# Altium schematic symbol library pporyzala-TI_Lighting.SchLib: 745 symbols (part 40 of 48)
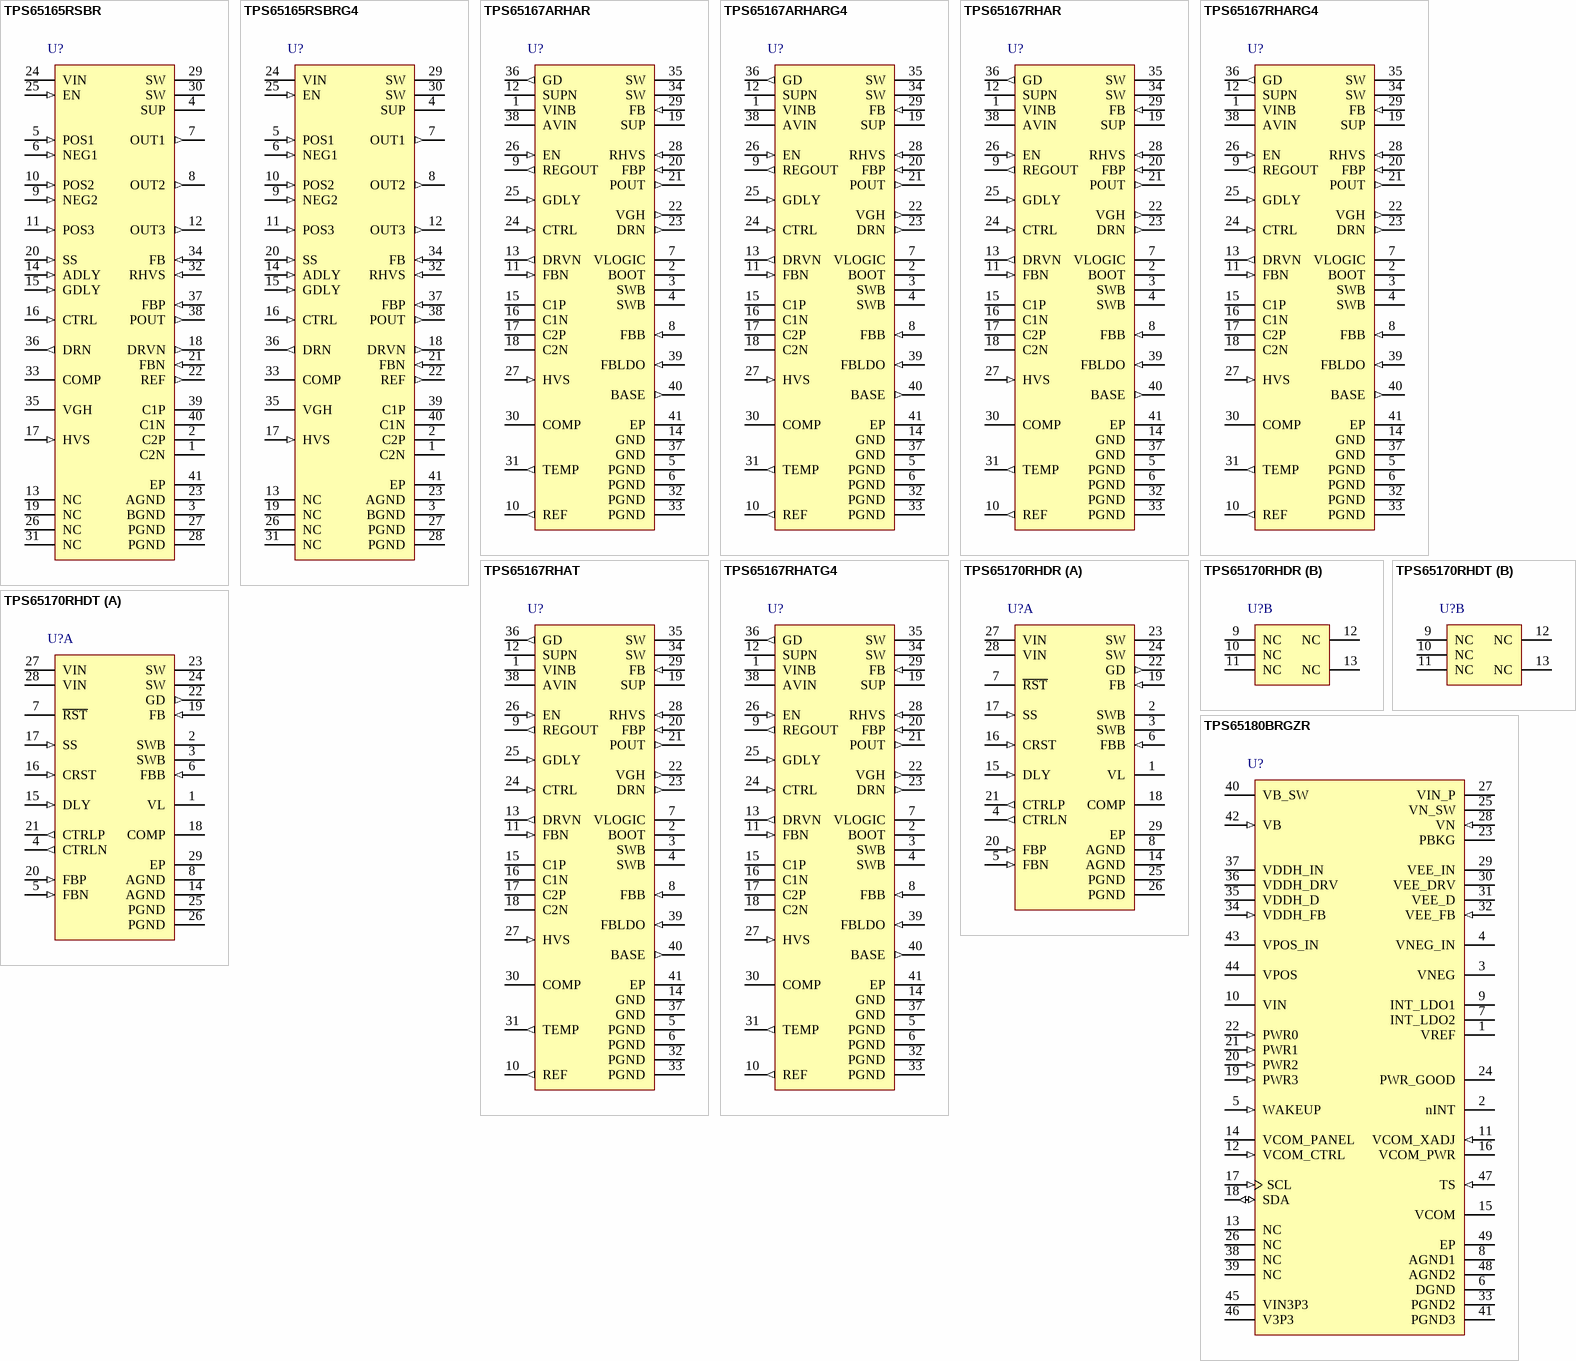
[diagram p70: symbols TPS65165RSBR to TPS65180BRGZR]

## TPS65167ARHAR
designator U?
4-Channel LCD Bias with Fully Integrated Positive Charge Pump, LDO Controller, HVS (VDD / VGH) & Temp. Sensor, 6 to 14 V, -40 to 85 degC, 40-pin QFN (RHA40), Green (RoHS & no Sb/Br); Manufacturer: Texas Instruments; PartNumber: TPS65167ARHAR; Rating: Catalog; SubFamily: LCD/OLED Display Bias Solutions; Switching Frequency(Typ)(kHz): 750; Vin(Max)(V): 14; Vin(Min)(V): 6; DatasheetVersion: SLVS760C; PackageVersion: 4204276/E; PackageReference: RHA40-4150X4150TP; PackageDescription: 40-Pin Plastic Flat Pack, Body 6 x 6 mm, Pitch 0.5 mm; Supplier 1: Digi-Key; Supplier Part Number 1: 296-22946-2-ND; Supplier 2: Digi-Key; Supplier Part Number 2: 296-22946-1-ND; Supplier 3: Digi-Key; Supplier Part Number 3: 296-22946-6-ND; Supplier 4: Newark; Supplier Part Number 4: 65M6349; Supplier 5: Mouser; Supplier Part Number 5: 595-TPS65167ARHAR; Eco-Plan: Green (RoHS & no Sb/Br); Mounting Technology: Surface Mount; Code_JEDEC: MO-220; ComponentLink1Description: Manufacturer URL; ComponentLink1URL: http://www.ti.com/; ComponentLink2Description: Datasheet; ComponentLink2URL: http://www.ti.com/general/docs/lit/getliterature.tsp?genericPartNumber=TPS65167A&fileType=pdf; ComponentLink3Description: Package Specification; ComponentLink3URL: http://www.ti.com/litv/pdf/mpqf135c
footprint TI-RHA40-4150X4150TP_V (QFN, 40-Leads, Body 6x6mm, Pitch 0.5mm, Thermal Pad 4.15x4.15mm)
pins: 1 VINB (power) "Power input for the buck converter.", 2 BOOT (power) "This pin generates the gate drive voltage for the Buck converter. Connect a 100 nF from this pin to the switch pin of the step-down converter SWB.", 3 SWB (power) "Switch pin of the step-down converter", 4 SWB (power) "Switch pin of the step-down converter", 5 PGND (power) "Power ground for the step-down converter", 6 PGND (power) "Power ground for the negative charge pump", 7 VLOGIC (power) "Output sense of the step-down converter", 8 FBB (in) "Feedback pin of the step-down converter", 9 REGOUT (out) "Output of the internal 5V regulator. Connect a 4.7 uF bypass capacitor to this pin.", 10 REF (out) "Internal reference output typically 1.213 V. Connect a 100 nF bypass capacitor to this pin.", 11 FBN (in) "Feedback pin of negative charge pump", 12 SUPN (power) "Power supply pin for the negative charge pump driver.", 13 DRVN (out) "Drive pin of the negative charge pump.", 14 GND (power) "Power ground for the positive charge pump", 15 C1P "Positive charge pump flying capacitor", 16 C1N "Positive charge pump flying capacitor", 17 C2P "Positive charge pump flying capacitor", 18 C2N "Positive charge pump flying capacitor", 19 SUP (power) "Power supply pin of the positive charge pump and control voltage for the boost regulator Vs. Connect this pin with a short and wide PCB trace to the output of the boots converter", 20 FBP (in) "Feedback of the positive charge pump", 21 POUT (out) "Output of the positive charge pump converter", 22 VGH (out) "Output of the high voltage switch and gate shaping function block", 23 DRN (out) "Termination of the low side switch of the gate voltage shaping block", 24 CTRL (in) "Control input for the gate voltage shaping block. Connect this pin to REGOUT if the gate voltage shaping function is not used.", 25 GDLY (in) "Connecting a capacitor from this pin to GND allows to set the delay time between the boost converter Vs and VGH. Note that VGH is controlled by CTRL as well.", 26 EN (in) "This is the enable pin of the boost converter Vs, negative charge pump VGL and positive charge pump POUT. This pin is a dual function pin. EN can be held high if no start-up delay is desired or a capacitor can be connected (See Datasheet)", 27 HVS (in) "Logic control input to force the device into High Voltage Stress Test. With HVS = low the high voltage stress test disabled. With the TPS65167 and HVS = high the high voltage stress test is enabled for Vs and for VGH. With (See Datasheet)", 28 RHVS (in) "This resistor sets the voltage of the boost converter Vs when the High Voltage Stress test is enabled. (HVS= high). With HVS = high the RHVS pin is pulled to GND which sets the voltage for the boost converter during High (See Datasheet)", 29 FB (in) "Feedback of the boost converter Vs", 30 COMP "Compensation for the regulation loop of the boost converter generating Vs. Typically a 22 nF compensation capacitor is connected to this pin.", 31 TEMP (out) "This is the output of the internal device temperature sensor. The output voltage is proportional to the chip temperature.", 32 PGND (power) "Power Ground for the boost converter Vs", 33 PGND (power) "Power Ground for the boost converter Vs", 34 SW (power) "Switch pin of the boost converter generating Vs", 35 SW (power) "Switch pin of the boost converter generating Vs", 36 GD (out) "Gate drive. This pin controls the external isolation MOSFET.", 37 GND (power) "Analog Ground for the internal reference", 38 AVIN (power) "Analog input voltage of the device. Bypass this pin with a 0.47 uF bypass capacitor.", 39 FBLDO (in) "Feedback of the LDO controller", 40 BASE (out) "BASE drive of the external PNP transistor", 41 EP (power) "Analog GND for the internal reference"

## TPS65167ARHARG4
designator U?
4-Channel LCD Bias with Fully Integrated Positive Charge Pump, LDO Controller, HVS (VDD / VGH) & Temp. Sensor, 6 to 14 V, -40 to 85 degC, 40-pin QFN (RHA40), Green (RoHS & no Sb/Br); Manufacturer: Texas Instruments; PartNumber: TPS65167ARHARG4; Rating: Catalog; SubFamily: LCD/OLED Display Bias Solutions; Switching Frequency(Typ)(kHz): 750; Vin(Max)(V): 14; Vin(Min)(V): 6; DatasheetVersion: SLVS760C; PackageVersion: 4204276/E; PackageReference: RHA40-4150X4150TP; PackageDescription: 40-Pin Plastic Flat Pack, Body 6 x 6 mm, Pitch 0.5 mm; Supplier 1: Digi-Key; Supplier Part Number 1: TPS65167ARHARG4-ND; Supplier 2: Newark; Supplier Part Number 2: 65M6350; Supplier 3: Mouser; Supplier Part Number 3: 595-TPS65167ARHARG4; Eco-Plan: Green (RoHS & no Sb/Br); Mounting Technology: Surface Mount; Code_JEDEC: MO-220; ComponentLink1Description: Manufacturer URL; ComponentLink1URL: http://www.ti.com/; ComponentLink2Description: Datasheet; ComponentLink2URL: http://www.ti.com/general/docs/lit/getliterature.tsp?genericPartNumber=TPS65167A&fileType=pdf; ComponentLink3Description: Package Specification; ComponentLink3URL: http://www.ti.com/litv/pdf/mpqf135c
footprint TI-RHA40-4150X4150TP_V (QFN, 40-Leads, Body 6x6mm, Pitch 0.5mm, Thermal Pad 4.15x4.15mm)
pins: 1 VINB (power) "Power input for the buck converter.", 2 BOOT (power) "This pin generates the gate drive voltage for the Buck converter. Connect a 100 nF from this pin to the switch pin of the step-down converter SWB.", 3 SWB (power) "Switch pin of the step-down converter", 4 SWB (power) "Switch pin of the step-down converter", 5 PGND (power) "Power ground for the step-down converter", 6 PGND (power) "Power ground for the negative charge pump", 7 VLOGIC (power) "Output sense of the step-down converter", 8 FBB (in) "Feedback pin of the step-down converter", 9 REGOUT (out) "Output of the internal 5V regulator. Connect a 4.7 uF bypass capacitor to this pin.", 10 REF (out) "Internal reference output typically 1.213 V. Connect a 100 nF bypass capacitor to this pin.", 11 FBN (in) "Feedback pin of negative charge pump", 12 SUPN (power) "Power supply pin for the negative charge pump driver.", 13 DRVN (out) "Drive pin of the negative charge pump.", 14 GND (power) "Power ground for the positive charge pump", 15 C1P "Positive charge pump flying capacitor", 16 C1N "Positive charge pump flying capacitor", 17 C2P "Positive charge pump flying capacitor", 18 C2N "Positive charge pump flying capacitor", 19 SUP (power) "Power supply pin of the positive charge pump and control voltage for the boost regulator Vs. Connect this pin with a short and wide PCB trace to the output of the boots converter", 20 FBP (in) "Feedback of the positive charge pump", 21 POUT (out) "Output of the positive charge pump converter", 22 VGH (out) "Output of the high voltage switch and gate shaping function block", 23 DRN (out) "Termination of the low side switch of the gate voltage shaping block", 24 CTRL (in) "Control input for the gate voltage shaping block. Connect this pin to REGOUT if the gate voltage shaping function is not used.", 25 GDLY (in) "Connecting a capacitor from this pin to GND allows to set the delay time between the boost converter Vs and VGH. Note that VGH is controlled by CTRL as well.", 26 EN (in) "This is the enable pin of the boost converter Vs, negative charge pump VGL and positive charge pump POUT. This pin is a dual function pin. EN can be held high if no start-up delay is desired or a capacitor can be connected (See Datasheet)", 27 HVS (in) "Logic control input to force the device into High Voltage Stress Test. With HVS = low the high voltage stress test disabled. With the TPS65167 and HVS = high the high voltage stress test is enabled for Vs and for VGH. With (See Datasheet)", 28 RHVS (in) "This resistor sets the voltage of the boost converter Vs when the High Voltage Stress test is enabled. (HVS= high). With HVS = high the RHVS pin is pulled to GND which sets the voltage for the boost converter during High (See Datasheet)", 29 FB (in) "Feedback of the boost converter Vs", 30 COMP "Compensation for the regulation loop of the boost converter generating Vs. Typically a 22 nF compensation capacitor is connected to this pin.", 31 TEMP (out) "This is the output of the internal device temperature sensor. The output voltage is proportional to the chip temperature.", 32 PGND (power) "Power Ground for the boost converter Vs", 33 PGND (power) "Power Ground for the boost converter Vs", 34 SW (power) "Switch pin of the boost converter generating Vs", 35 SW (power) "Switch pin of the boost converter generating Vs", 36 GD (out) "Gate drive. This pin controls the external isolation MOSFET.", 37 GND (power) "Analog Ground for the internal reference", 38 AVIN (power) "Analog input voltage of the device. Bypass this pin with a 0.47 uF bypass capacitor.", 39 FBLDO (in) "Feedback of the LDO controller", 40 BASE (out) "BASE drive of the external PNP transistor", 41 EP (power) "Analog GND for the internal reference"

## TPS65167RHAR
designator U?
4-Channel LCD Bias with Fully Integrated Positive Charge Pump, LDO Controller, HVS (VDD) & Temperature Sensor, 6 to 14 V, -40 to 85 degC, 40-pin QFN (RHA40), Green (RoHS & no Sb/Br); Manufacturer: Texas Instruments; PartNumber: TPS65167RHAR; Rating: Catalog; SubFamily: LCD/OLED Display Bias Solutions; Switching Frequency(Typ)(kHz): 750; Vin(Max)(V): 14; Vin(Min)(V): 6; DatasheetVersion: SLVS760C; PackageVersion: 4204276/E; PackageReference: RHA40-4150X4150TP; PackageDescription: 40-Pin Plastic Flat Pack, Body 6 x 6 mm, Pitch 0.5 mm; Supplier 1: Digi-Key; Supplier Part Number 1: 296-21975-2-ND; Supplier 2: Digi-Key; Supplier Part Number 2: 296-21975-1-ND; Supplier 3: Digi-Key; Supplier Part Number 3: 296-21975-6-ND; Supplier 4: Newark; Supplier Part Number 4: 48M0956; Supplier 5: Mouser; Supplier Part Number 5: 595-TPS65167RHAR; Eco-Plan: Green (RoHS & no Sb/Br); Mounting Technology: Surface Mount; Code_JEDEC: MO-220; ComponentLink1Description: Manufacturer URL; ComponentLink1URL: http://www.ti.com/; ComponentLink2Description: Datasheet; ComponentLink2URL: http://www.ti.com/general/docs/lit/getliterature.tsp?genericPartNumber=TPS65167&fileType=pdf; ComponentLink3Description: Package Specification; ComponentLink3URL: http://www.ti.com/litv/pdf/mpqf135c
footprint TI-RHA40-4150X4150TP_V (QFN, 40-Leads, Body 6x6mm, Pitch 0.5mm, Thermal Pad 4.15x4.15mm)
pins: 1 VINB (power) "Power input for the buck converter.", 2 BOOT (power) "This pin generates the gate drive voltage for the Buck converter. Connect a 100 nF from this pin to the switch pin of the step-down converter SWB.", 3 SWB (power) "Switch pin of the step-down converter", 4 SWB (power) "Switch pin of the step-down converter", 5 PGND (power) "Power ground for the step-down converter", 6 PGND (power) "Power ground for the negative charge pump", 7 VLOGIC (power) "Output sense of the step-down converter", 8 FBB (in) "Feedback pin of the step-down converter", 9 REGOUT (out) "Output of the internal 5V regulator. Connect a 4.7 uF bypass capacitor to this pin.", 10 REF (out) "Internal reference output typically 1.213 V. Connect a 100 nF bypass capacitor to this pin.", 11 FBN (in) "Feedback pin of negative charge pump", 12 SUPN (power) "Power supply pin for the negative charge pump driver.", 13 DRVN (out) "Drive pin of the negative charge pump.", 14 GND (power) "Power ground for the positive charge pump", 15 C1P "Positive charge pump flying capacitor", 16 C1N "Positive charge pump flying capacitor", 17 C2P "Positive charge pump flying capacitor", 18 C2N "Positive charge pump flying capacitor", 19 SUP (power) "Power supply pin of the positive charge pump and control voltage for the boost regulator Vs. Connect this pin with a short and wide PCB trace to the output of the boots converter", 20 FBP (in) "Feedback of the positive charge pump", 21 POUT (out) "Output of the positive charge pump converter", 22 VGH (out) "Output of the high voltage switch and gate shaping function block", 23 DRN (out) "Termination of the low side switch of the gate voltage shaping block", 24 CTRL (in) "Control input for the gate voltage shaping block. Connect this pin to REGOUT if the gate voltage shaping function is not used.", 25 GDLY (in) "Connecting a capacitor from this pin to GND allows to set the delay time between the boost converter Vs and VGH. Note that VGH is controlled by CTRL as well.", 26 EN (in) "This is the enable pin of the boost converter Vs, negative charge pump VGL and positive charge pump POUT. This pin is a dual function pin. EN can be held high if no start-up delay is desired or a capacitor can be connected (See Datasheet)", 27 HVS (in) "Logic control input to force the device into High Voltage Stress Test. With HVS = low the high voltage stress test disabled. With the TPS65167 and HVS = high the high voltage stress test is enabled for Vs and for VGH. With (See Datasheet)", 28 RHVS (in) "This resistor sets the voltage of the boost converter Vs when the High Voltage Stress test is enabled. (HVS= high). With HVS = high the RHVS pin is pulled to GND which sets the voltage for the boost converter during High (See Datasheet)", 29 FB (in) "Feedback of the boost converter Vs", 30 COMP "Compensation for the regulation loop of the boost converter generating Vs. Typically a 22 nF compensation capacitor is connected to this pin.", 31 TEMP (out) "This is the output of the internal device temperature sensor. The output voltage is proportional to the chip temperature.", 32 PGND (power) "Power Ground for the boost converter Vs", 33 PGND (power) "Power Ground for the boost converter Vs", 34 SW (power) "Switch pin of the boost converter generating Vs", 35 SW (power) "Switch pin of the boost converter generating Vs", 36 GD (out) "Gate drive. This pin controls the external isolation MOSFET.", 37 GND (power) "Analog Ground for the internal reference", 38 AVIN (power) "Analog input voltage of the device. Bypass this pin with a 0.47 uF bypass capacitor.", 39 FBLDO (in) "Feedback of the LDO controller", 40 BASE (out) "BASE drive of the external PNP transistor", 41 EP (power) "Analog GND for the internal reference"

## TPS65167RHARG4
designator U?
4-Channel LCD Bias with Fully Integrated Positive Charge Pump, LDO Controller, HVS (VDD) & Temperature Sensor, 6 to 14 V, -40 to 85 degC, 40-pin QFN (RHA40), Green (RoHS & no Sb/Br); Manufacturer: Texas Instruments; PartNumber: TPS65167RHARG4; Rating: Catalog; SubFamily: LCD/OLED Display Bias Solutions; Switching Frequency(Typ)(kHz): 750; Vin(Max)(V): 14; Vin(Min)(V): 6; DatasheetVersion: SLVS760C; PackageVersion: 4204276/E; PackageReference: RHA40-4150X4150TP; PackageDescription: 40-Pin Plastic Flat Pack, Body 6 x 6 mm, Pitch 0.5 mm; Supplier 1: Digi-Key; Supplier Part Number 1: TPS65167RHARG4-ND; Supplier 2: Newark; Supplier Part Number 2: 52M6150; Supplier 3: Mouser; Supplier Part Number 3: 595-TPS65167RHARG4; Eco-Plan: Green (RoHS & no Sb/Br); Mounting Technology: Surface Mount; Code_JEDEC: MO-220; ComponentLink1Description: Manufacturer URL; ComponentLink1URL: http://www.ti.com/; ComponentLink2Description: Datasheet; ComponentLink2URL: http://www.ti.com/general/docs/lit/getliterature.tsp?genericPartNumber=TPS65167&fileType=pdf; ComponentLink3Description: Package Specification; ComponentLink3URL: http://www.ti.com/litv/pdf/mpqf135c
footprint TI-RHA40-4150X4150TP_V (QFN, 40-Leads, Body 6x6mm, Pitch 0.5mm, Thermal Pad 4.15x4.15mm)
pins: 1 VINB (power) "Power input for the buck converter.", 2 BOOT (power) "This pin generates the gate drive voltage for the Buck converter. Connect a 100 nF from this pin to the switch pin of the step-down converter SWB.", 3 SWB (power) "Switch pin of the step-down converter", 4 SWB (power) "Switch pin of the step-down converter", 5 PGND (power) "Power ground for the step-down converter", 6 PGND (power) "Power ground for the negative charge pump", 7 VLOGIC (power) "Output sense of the step-down converter", 8 FBB (in) "Feedback pin of the step-down converter", 9 REGOUT (out) "Output of the internal 5V regulator. Connect a 4.7 uF bypass capacitor to this pin.", 10 REF (out) "Internal reference output typically 1.213 V. Connect a 100 nF bypass capacitor to this pin.", 11 FBN (in) "Feedback pin of negative charge pump", 12 SUPN (power) "Power supply pin for the negative charge pump driver.", 13 DRVN (out) "Drive pin of the negative charge pump.", 14 GND (power) "Power ground for the positive charge pump", 15 C1P "Positive charge pump flying capacitor", 16 C1N "Positive charge pump flying capacitor", 17 C2P "Positive charge pump flying capacitor", 18 C2N "Positive charge pump flying capacitor", 19 SUP (power) "Power supply pin of the positive charge pump and control voltage for the boost regulator Vs. Connect this pin with a short and wide PCB trace to the output of the boots converter", 20 FBP (in) "Feedback of the positive charge pump", 21 POUT (out) "Output of the positive charge pump converter", 22 VGH (out) "Output of the high voltage switch and gate shaping function block", 23 DRN (out) "Termination of the low side switch of the gate voltage shaping block", 24 CTRL (in) "Control input for the gate voltage shaping block. Connect this pin to REGOUT if the gate voltage shaping function is not used.", 25 GDLY (in) "Connecting a capacitor from this pin to GND allows to set the delay time between the boost converter Vs and VGH. Note that VGH is controlled by CTRL as well.", 26 EN (in) "This is the enable pin of the boost converter Vs, negative charge pump VGL and positive charge pump POUT. This pin is a dual function pin. EN can be held high if no start-up delay is desired or a capacitor can be connected (See Datasheet)", 27 HVS (in) "Logic control input to force the device into High Voltage Stress Test. With HVS = low the high voltage stress test disabled. With the TPS65167 and HVS = high the high voltage stress test is enabled for Vs and for VGH. With (See Datasheet)", 28 RHVS (in) "This resistor sets the voltage of the boost converter Vs when the High Voltage Stress test is enabled. (HVS= high). With HVS = high the RHVS pin is pulled to GND which sets the voltage for the boost converter during High (See Datasheet)", 29 FB (in) "Feedback of the boost converter Vs", 30 COMP "Compensation for the regulation loop of the boost converter generating Vs. Typically a 22 nF compensation capacitor is connected to this pin.", 31 TEMP (out) "This is the output of the internal device temperature sensor. The output voltage is proportional to the chip temperature.", 32 PGND (power) "Power Ground for the boost converter Vs", 33 PGND (power) "Power Ground for the boost converter Vs", 34 SW (power) "Switch pin of the boost converter generating Vs", 35 SW (power) "Switch pin of the boost converter generating Vs", 36 GD (out) "Gate drive. This pin controls the external isolation MOSFET.", 37 GND (power) "Analog Ground for the internal reference", 38 AVIN (power) "Analog input voltage of the device. Bypass this pin with a 0.47 uF bypass capacitor.", 39 FBLDO (in) "Feedback of the LDO controller", 40 BASE (out) "BASE drive of the external PNP transistor", 41 EP (power) "Analog GND for the internal reference"

## TPS65167RHAT
designator U?
4-Channel LCD Bias with Fully Integrated Positive Charge Pump, LDO Controller, HVS (VDD) & Temperature Sensor, 6 to 14 V, -40 to 85 degC, 40-pin QFN (RHA40), Green (RoHS & no Sb/Br); Manufacturer: Texas Instruments; PartNumber: TPS65167RHAT; Rating: Catalog; SubFamily: LCD/OLED Display Bias Solutions; Switching Frequency(Typ)(kHz): 750; Vin(Max)(V): 14; Vin(Min)(V): 6; DatasheetVersion: SLVS760C; PackageVersion: 4204276/E; PackageReference: RHA40-4150X4150TP; PackageDescription: 40-Pin Plastic Flat Pack, Body 6 x 6 mm, Pitch 0.5 mm; Supplier 1: Digi-Key; Supplier Part Number 1: TPS65167RHAT-ND; Supplier 2: Newark; Supplier Part Number 2: 48M0957; Supplier 3: Mouser; Supplier Part Number 3: 595-TPS65167RHAT; Eco-Plan: Green (RoHS & no Sb/Br); Mounting Technology: Surface Mount; Code_JEDEC: MO-220; ComponentLink1Description: Manufacturer URL; ComponentLink1URL: http://www.ti.com/; ComponentLink2Description: Datasheet; ComponentLink2URL: http://www.ti.com/general/docs/lit/getliterature.tsp?genericPartNumber=TPS65167&fileType=pdf; ComponentLink3Description: Package Specification; ComponentLink3URL: http://www.ti.com/litv/pdf/mpqf135c
footprint TI-RHA40-4150X4150TP_V (QFN, 40-Leads, Body 6x6mm, Pitch 0.5mm, Thermal Pad 4.15x4.15mm)
pins: 1 VINB (power) "Power input for the buck converter.", 2 BOOT (power) "This pin generates the gate drive voltage for the Buck converter. Connect a 100 nF from this pin to the switch pin of the step-down converter SWB.", 3 SWB (power) "Switch pin of the step-down converter", 4 SWB (power) "Switch pin of the step-down converter", 5 PGND (power) "Power ground for the step-down converter", 6 PGND (power) "Power ground for the negative charge pump", 7 VLOGIC (power) "Output sense of the step-down converter", 8 FBB (in) "Feedback pin of the step-down converter", 9 REGOUT (out) "Output of the internal 5V regulator. Connect a 4.7 uF bypass capacitor to this pin.", 10 REF (out) "Internal reference output typically 1.213 V. Connect a 100 nF bypass capacitor to this pin.", 11 FBN (in) "Feedback pin of negative charge pump", 12 SUPN (power) "Power supply pin for the negative charge pump driver.", 13 DRVN (out) "Drive pin of the negative charge pump.", 14 GND (power) "Power ground for the positive charge pump", 15 C1P "Positive charge pump flying capacitor", 16 C1N "Positive charge pump flying capacitor", 17 C2P "Positive charge pump flying capacitor", 18 C2N "Positive charge pump flying capacitor", 19 SUP (power) "Power supply pin of the positive charge pump and control voltage for the boost regulator Vs. Connect this pin with a short and wide PCB trace to the output of the boots converter", 20 FBP (in) "Feedback of the positive charge pump", 21 POUT (out) "Output of the positive charge pump converter", 22 VGH (out) "Output of the high voltage switch and gate shaping function block", 23 DRN (out) "Termination of the low side switch of the gate voltage shaping block", 24 CTRL (in) "Control input for the gate voltage shaping block. Connect this pin to REGOUT if the gate voltage shaping function is not used.", 25 GDLY (in) "Connecting a capacitor from this pin to GND allows to set the delay time between the boost converter Vs and VGH. Note that VGH is controlled by CTRL as well.", 26 EN (in) "This is the enable pin of the boost converter Vs, negative charge pump VGL and positive charge pump POUT. This pin is a dual function pin. EN can be held high if no start-up delay is desired or a capacitor can be connected (See Datasheet)", 27 HVS (in) "Logic control input to force the device into High Voltage Stress Test. With HVS = low the high voltage stress test disabled. With the TPS65167 and HVS = high the high voltage stress test is enabled for Vs and for VGH. With (See Datasheet)", 28 RHVS (in) "This resistor sets the voltage of the boost converter Vs when the High Voltage Stress test is enabled. (HVS= high). With HVS = high the RHVS pin is pulled to GND which sets the voltage for the boost converter during High (See Datasheet)", 29 FB (in) "Feedback of the boost converter Vs", 30 COMP "Compensation for the regulation loop of the boost converter generating Vs. Typically a 22 nF compensation capacitor is connected to this pin.", 31 TEMP (out) "This is the output of the internal device temperature sensor. The output voltage is proportional to the chip temperature.", 32 PGND (power) "Power Ground for the boost converter Vs", 33 PGND (power) "Power Ground for the boost converter Vs", 34 SW (power) "Switch pin of the boost converter generating Vs", 35 SW (power) "Switch pin of the boost converter generating Vs", 36 GD (out) "Gate drive. This pin controls the external isolation MOSFET.", 37 GND (power) "Analog Ground for the internal reference", 38 AVIN (power) "Analog input voltage of the device. Bypass this pin with a 0.47 uF bypass capacitor.", 39 FBLDO (in) "Feedback of the LDO controller", 40 BASE (out) "BASE drive of the external PNP transistor", 41 EP (power) "Analog GND for the internal reference"

## TPS65167RHATG4
designator U?
4-Channel LCD Bias with Fully Integrated Positive Charge Pump, LDO Controller, HVS (VDD) & Temperature Sensor, 6 to 14 V, -40 to 85 degC, 40-pin QFN (RHA40), Green (RoHS & no Sb/Br); Manufacturer: Texas Instruments; PartNumber: TPS65167RHATG4; Rating: Catalog; SubFamily: LCD/OLED Display Bias Solutions; Switching Frequency(Typ)(kHz): 750; Vin(Max)(V): 14; Vin(Min)(V): 6; DatasheetVersion: SLVS760C; PackageVersion: 4204276/E; PackageReference: RHA40-4150X4150TP; PackageDescription: 40-Pin Plastic Flat Pack, Body 6 x 6 mm, Pitch 0.5 mm; Supplier 1: Digi-Key; Supplier Part Number 1: TPS65167RHATG4-ND; Supplier 2: Newark; Supplier Part Number 2: 52M6151; Supplier 3: Mouser; Supplier Part Number 3: 595-TPS65167RHATG4; Eco-Plan: Green (RoHS & no Sb/Br); Mounting Technology: Surface Mount; Code_JEDEC: MO-220; ComponentLink1Description: Manufacturer URL; ComponentLink1URL: http://www.ti.com/; ComponentLink2Description: Datasheet; ComponentLink2URL: http://www.ti.com/general/docs/lit/getliterature.tsp?genericPartNumber=TPS65167&fileType=pdf; ComponentLink3Description: Package Specification; ComponentLink3URL: http://www.ti.com/litv/pdf/mpqf135c
footprint TI-RHA40-4150X4150TP_V (QFN, 40-Leads, Body 6x6mm, Pitch 0.5mm, Thermal Pad 4.15x4.15mm)
pins: 1 VINB (power) "Power input for the buck converter.", 2 BOOT (power) "This pin generates the gate drive voltage for the Buck converter. Connect a 100 nF from this pin to the switch pin of the step-down converter SWB.", 3 SWB (power) "Switch pin of the step-down converter", 4 SWB (power) "Switch pin of the step-down converter", 5 PGND (power) "Power ground for the step-down converter", 6 PGND (power) "Power ground for the negative charge pump", 7 VLOGIC (power) "Output sense of the step-down converter", 8 FBB (in) "Feedback pin of the step-down converter", 9 REGOUT (out) "Output of the internal 5V regulator. Connect a 4.7 uF bypass capacitor to this pin.", 10 REF (out) "Internal reference output typically 1.213 V. Connect a 100 nF bypass capacitor to this pin.", 11 FBN (in) "Feedback pin of negative charge pump", 12 SUPN (power) "Power supply pin for the negative charge pump driver.", 13 DRVN (out) "Drive pin of the negative charge pump.", 14 GND (power) "Power ground for the positive charge pump", 15 C1P "Positive charge pump flying capacitor", 16 C1N "Positive charge pump flying capacitor", 17 C2P "Positive charge pump flying capacitor", 18 C2N "Positive charge pump flying capacitor", 19 SUP (power) "Power supply pin of the positive charge pump and control voltage for the boost regulator Vs. Connect this pin with a short and wide PCB trace to the output of the boots converter", 20 FBP (in) "Feedback of the positive charge pump", 21 POUT (out) "Output of the positive charge pump converter", 22 VGH (out) "Output of the high voltage switch and gate shaping function block", 23 DRN (out) "Termination of the low side switch of the gate voltage shaping block", 24 CTRL (in) "Control input for the gate voltage shaping block. Connect this pin to REGOUT if the gate voltage shaping function is not used.", 25 GDLY (in) "Connecting a capacitor from this pin to GND allows to set the delay time between the boost converter Vs and VGH. Note that VGH is controlled by CTRL as well.", 26 EN (in) "This is the enable pin of the boost converter Vs, negative charge pump VGL and positive charge pump POUT. This pin is a dual function pin. EN can be held high if no start-up delay is desired or a capacitor can be connected (See Datasheet)", 27 HVS (in) "Logic control input to force the device into High Voltage Stress Test. With HVS = low the high voltage stress test disabled. With the TPS65167 and HVS = high the high voltage stress test is enabled for Vs and for VGH. With (See Datasheet)", 28 RHVS (in) "This resistor sets the voltage of the boost converter Vs when the High Voltage Stress test is enabled. (HVS= high). With HVS = high the RHVS pin is pulled to GND which sets the voltage for the boost converter during High (See Datasheet)", 29 FB (in) "Feedback of the boost converter Vs", 30 COMP "Compensation for the regulation loop of the boost converter generating Vs. Typically a 22 nF compensation capacitor is connected to this pin.", 31 TEMP (out) "This is the output of the internal device temperature sensor. The output voltage is proportional to the chip temperature.", 32 PGND (power) "Power Ground for the boost converter Vs", 33 PGND (power) "Power Ground for the boost converter Vs", 34 SW (power) "Switch pin of the boost converter generating Vs", 35 SW (power) "Switch pin of the boost converter generating Vs", 36 GD (out) "Gate drive. This pin controls the external isolation MOSFET.", 37 GND (power) "Analog Ground for the internal reference", 38 AVIN (power) "Analog input voltage of the device. Bypass this pin with a 0.47 uF bypass capacitor.", 39 FBLDO (in) "Feedback of the LDO controller", 40 BASE (out) "BASE drive of the external PNP transistor", 41 EP (power) "Analog GND for the internal reference"

## TPS65170RHDR
designator U?
4-Channel LCD Bias with Regulators for External Charge Pump, 8.6 to 14.7 V, -40 to 85 degC, 28-pin QFN (RHD28), Green (RoHS & no Sb/Br); Manufacturer: Texas Instruments; PartNumber: TPS65170RHDR; Iout(Max)(A): 2; Iq(Typ)(mA): 1; Rating: Catalog; SubFamily: LCD/OLED Display Bias Solutions; Switching Frequency(Typ)(kHz): 750; Topology: Buck, Boost, Charge Pump; Vin(Max)(V): 14.7; Vin(Min)(V): 8.6; DatasheetVersion: SLVSA27; PackageVersion: 4204400/F; PackageReference: RHD28-3150X3150TP; PackageDescription: 28-Pin Plastic Flat Pack, Body 5 x 5 mm, Pitch 0.5 mm; Supplier 1: Digi-Key; Supplier Part Number 1: TPS65170RHDR-ND; Supplier 2: Mouser; Supplier Part Number 2: 595-TPS65170RHDR; Eco-Plan: Green (RoHS & no Sb/Br); Mounting Technology: Surface Mount; Code_JEDEC: MO-220; ComponentLink1Description: Manufacturer URL; ComponentLink1URL: http://www.ti.com/; ComponentLink2Description: Datasheet; ComponentLink2URL: http://www.ti.com/general/docs/lit/getliterature.tsp?genericPartNumber=TPS65170&fileType=pdf; ComponentLink3Description: Package Specification; ComponentLink3URL: http://www.ti.com/lit/ml/mpqf133e/mpqf133e.pdf
footprint TI-RHD28-3150X3150TP_V (QFN, 28-Leads, Body 5x5mm, Pitch 0.5mm, Thermal Pad 3.15x3.15mm)
part A pins: 1 VL (power) "Connection for decoupling capacitor for internal bias supply.", 2 SWB (power) "Buck converter switch node", 3 SWB (power) "Buck converter switch node", 4 CTRLN (out) "Base drive signal for the positive charge pump external regulating transistor", 5 FBN (in) "Feedback pin for the negative charge pump. Connect this pin to the center of a resistor divider connected between the negative charge pump output and buck converter output.", 6 FBB (in) "Buck converter feedback. Connect this pin to the output of the buck converter.", 7 ~{RST} (oc) "Reset generator open drain output", 8 AGND (power) "Analog ground", 14 AGND (power) "Analog ground.", 15 DLY (in) "Positive charge pump and boost converter delay capacitor connection.", 16 CRST (in) "Reset generator timing capacitor connection.", 17 SS (in) "Soft-start timing capacitor connection.", 18 COMP "Boost converter compensation network connection.", 19 FB (in) "Boost regulator feedback. Connect this pin to the center of a resistor divider connected between the boost converter output and AGND.", 20 FBP (in) "Feedback pin for the positive charge pump. Connect this pin to the center of a resistor divider connected between the positive charge pump output and AGND.", 21 CTRLP (out) "Base drive signal for the positive charge pump external regulating transistor", 22 GD (out) "Gate drive signal for the external MOSFET isolation switch.", 23 SW (power) "Boost converter switching node", 24 SW (power) "Boost converter switching node", 25 PGND (power) "Power ground", 26 PGND (power) "Power ground", 27 VIN (power) "Supply voltage connection", 28 VIN (power) "Supply voltage connection", 29 EP (power) "Connect to the system GND"
part B pins: 9 NC "Not used, connect to AGND.", 10 NC "Not used, connect to AGND.", 11 NC "Not used, connect to AGND.", 12 NC "Not used, connect to AGND.", 13 NC "Not used, connect to AGND."

## TPS65170RHDT
designator U?
4-Channel LCD Bias with Regulators for External Charge Pump, 8.6 to 14.7 V, -40 to 85 degC, 28-pin QFN (RHD28); Manufacturer: Texas Instruments; PartNumber: TPS65170RHDT; Iout(Max)(A): 2; Iq(Typ)(mA): 1; Rating: Catalog; SubFamily: LCD/OLED Display Bias Solutions; Switching Frequency(Typ)(kHz): 750; Topology: Buck, Boost, Charge Pump; Vin(Max)(V): 14.7; Vin(Min)(V): 8.6; DatasheetVersion: SLVSA27; PackageVersion: 4204400/F; PackageReference: RHD28-3150X3150TP; PackageDescription: 28-Pin Plastic Flat Pack, Body 5 x 5 mm, Pitch 0.5 mm; Supplier 1: Digi-Key; Supplier Part Number 1: 296-25311-2-ND; Supplier 2: Digi-Key; Supplier Part Number 2: 296-25311-1-ND; Supplier 3: Digi-Key; Supplier Part Number 3: 296-25311-6-ND; Supplier 4: Mouser; Supplier Part Number 4: 595-TPS65170RHDT; Mounting Technology: Surface Mount; Code_JEDEC: MO-220; ComponentLink1Description: Manufacturer URL; ComponentLink1URL: http://www.ti.com/; ComponentLink2Description: Datasheet; ComponentLink2URL: http://www.ti.com/general/docs/lit/getliterature.tsp?genericPartNumber=TPS65170&fileType=pdf; ComponentLink3Description: Package Specification; ComponentLink3URL: http://www.ti.com/lit/ml/mpqf133e/mpqf133e.pdf
footprint TI-RHD28-3150X3150TP_V (QFN, 28-Leads, Body 5x5mm, Pitch 0.5mm, Thermal Pad 3.15x3.15mm)
part A pins: 1 VL (power) "Connection for decoupling capacitor for internal bias supply.", 2 SWB (power) "Buck converter switch node", 3 SWB (power) "Buck converter switch node", 4 CTRLN (out) "Base drive signal for the positive charge pump external regulating transistor", 5 FBN (in) "Feedback pin for the negative charge pump. Connect this pin to the center of a resistor divider connected between the negative charge pump output and buck converter output.", 6 FBB (in) "Buck converter feedback. Connect this pin to the output of the buck converter.", 7 ~{RST} (oc) "Reset generator open drain output", 8 AGND (power) "Analog ground", 14 AGND (power) "Analog ground.", 15 DLY (in) "Positive charge pump and boost converter delay capacitor connection.", 16 CRST (in) "Reset generator timing capacitor connection.", 17 SS (in) "Soft-start timing capacitor connection.", 18 COMP "Boost converter compensation network connection.", 19 FB (in) "Boost regulator feedback. Connect this pin to the center of a resistor divider connected between the boost converter output and AGND.", 20 FBP (in) "Feedback pin for the positive charge pump. Connect this pin to the center of a resistor divider connected between the positive charge pump output and AGND.", 21 CTRLP (out) "Base drive signal for the positive charge pump external regulating transistor", 22 GD (out) "Gate drive signal for the external MOSFET isolation switch.", 23 SW (power) "Boost converter switching node", 24 SW (power) "Boost converter switching node", 25 PGND (power) "Power ground", 26 PGND (power) "Power ground", 27 VIN (power) "Supply voltage connection", 28 VIN (power) "Supply voltage connection", 29 EP (power) "Connect to the system GND"
part B pins: 9 NC "Not used, connect to AGND.", 10 NC "Not used, connect to AGND.", 11 NC "Not used, connect to AGND.", 12 NC "Not used, connect to AGND.", 13 NC "Not used, connect to AGND."

## TPS65180BRGZR
designator U?
PMIC for E Ink Vizplex Enabled Electronic Paper Display, 3 to 6 V, -10 to 85 degC, 48-pin QFN (RGZ48), Green (RoHS & no Sb/Br); Manufacturer: Texas Instruments; PartNumber: TPS65180BRGZR; Rating: Catalog; SubFamily: LCD/OLED Display Bias Solutions; Topology: Multi-Channel; Vin(Max)(V): 6; Vin(Min)(V): 3; DatasheetVersion: SLVSA76F; PackageVersion: 4204101/F; PackageReference: RGZ48-4100X4100TP; PackageDescription: 48-Pin Plastic Flat Pack, Body 7 x 7 mm, Pitch 0.5 mm; Supplier 1: Digi-Key; Supplier Part Number 1: 296-28555-2-ND; Supplier 2: Digi-Key; Supplier Part Number 2: 296-28555-1-ND; Supplier 3: Digi-Key; Supplier Part Number 3: 296-28555-6-ND; Supplier 4: Newark; Supplier Part Number 4: 46T0098; Supplier 5: Mouser; Supplier Part Number 5: 595-TPS65180BRGZR; Eco-Plan: Green (RoHS & no Sb/Br); Mounting Technology: Surface Mount; Code_JEDEC: MO-220; ComponentLink1Description: Manufacturer URL; ComponentLink1URL: http://www.ti.com/; ComponentLink2Description: Datasheet; ComponentLink2URL: http://www.ti.com/general/docs/lit/getliterature.tsp?genericPartNumber=TPS65180B&fileType=pdf; ComponentLink3Description: Package Specification; ComponentLink3URL: http://www.ti.com/lit/ds/symlink/sn75dp139.pdf
footprint TI-RGZ48-4100X4100TP_V (QFN, 48-Leads, Body 7x7mm, Pitch 0.5mm, Thermal Pad 4.1x4.1mm)
pins: 1 VREF "Filter pin for 2.25-V internal reference to ADC", 2 nINT (oc) "Open drain interrupt pin (active low)", 3 VNEG (power) "Negative supply output pin for panel source drivers", 4 VNEG_IN (power) "Input pin for LDO2 (VNEG)", 5 WAKEUP (in) "Wake up pin (active high). Pull this pin high to wake up from sleep mode.", 6 DGND (power) "Digital ground", 7 INT_LDO2 "Internal supply (digital circuitry) filter pin", 8 AGND1 (power) "Analog ground for general analog circuitry", 9 INT_LDO1 "Internal supply (analog circuitry) filter pin", 10 VIN (power) "Input power supply to general circuitry", 11 VCOM_XADJ (in) "Analog input for conventional VCOM setup method. Tie this pin to ground if VCOM is set through I2 C interface", 12 VCOM_CTRL (in) "VCOM_PANEL gate driver enable (active high)", 13 NC "Not connected", 14 VCOM_PANEL (power) "Panel common-voltage output pin", 15 VCOM "Filter pin for panel common-voltage driver", 16 VCOM_PWR (power) "Internal supply input pin to VCOM buffer. Connect to the output of DCDC2.", 17 SCL (in) "Serial interface (I2C) clock input", 18 SDA (io) "Serial interface (I2C) data input/output", 19 PWR3 (in) "Enable pin for CP1 (VDDH) (active high)", 20 PWR2 (in) "Enable pin for LDO1 (VPOS) (active high)", 21 PWR1 (in) "Enable pin for CP2 (VEE) (active high)", 22 PWR0 (in) "Enable pin for LDO2 (VNEG) and VCOM (active high)", 23 PBKG (power) "Die substrate/thermal pad ,Connect to VN with short. wide trace.Wide copper trace will improve heat dissipation.PowePad must not be connected to ground", 24 PWR_GOOD (oc) "Open drain power good output pin (active low)", 25 VN_SW (power) "Inverting buck-boost converter switch out (DCDC2)", 26 NC "Not connected", 27 VIN_P (power) "Input power supply to inverting buck-boost converter (DCDC2)", 28 VN (in) "Feedback pin for inverting buck-boost converter (DCDC2)", 29 VEE_IN (power) "Input supply pin for CP1 (VEE)", 30 VEE_DRV (power) "Driver output pin for negative charge pump (CP2)", 31 VEE_D (power) "Base voltage output pin for negative charge pump (CP2)", 32 VEE_FB (in) "Feedback pin for negative charge pump (CP2)", 33 PGND2 (power) "Power ground for CP1 (VDDH) and CP2 (VEE) charge pumps", 34 VDDH_FB (in) "Feedback pin for positive charge pump (CP1)", 35 VDDH_D (power) "Base voltage output pin for positive charge pump (CP1)", 36 VDDH_DRV (power) "Driver output pin for positive charge pump (CP1)", 37 VDDH_IN (power) "Input supply pin for positive charge pump (CP1)", 38 NC "Not connected", 39 NC "Not connected", 40 VB_SW (power) "Boost converter switch out (DCDC1)", 41 PGND3 (power) "Power ground for DCDC1", 42 VB (in) "Feedback pin for boost converter (DCDC1)", 43 VPOS_IN (power) "Input pin for LDO1 (VPOS)", 44 VPOS (power) "Positive supply output pin for panel source drivers", 45 VIN3P3 (power) "Input pin to 3.3-V power switch", 46 V3P3 (power) "Output pin of 3.3-V power switch", 47 TS (in) "Thermistor input pin.Connect a 10k NTC thermistor and a 43k linearization resistor between this pin and AGND2", 48 AGND2 (power) "Reference point to external thermistor and linearization resistor", 49 EP "Exposed pad"

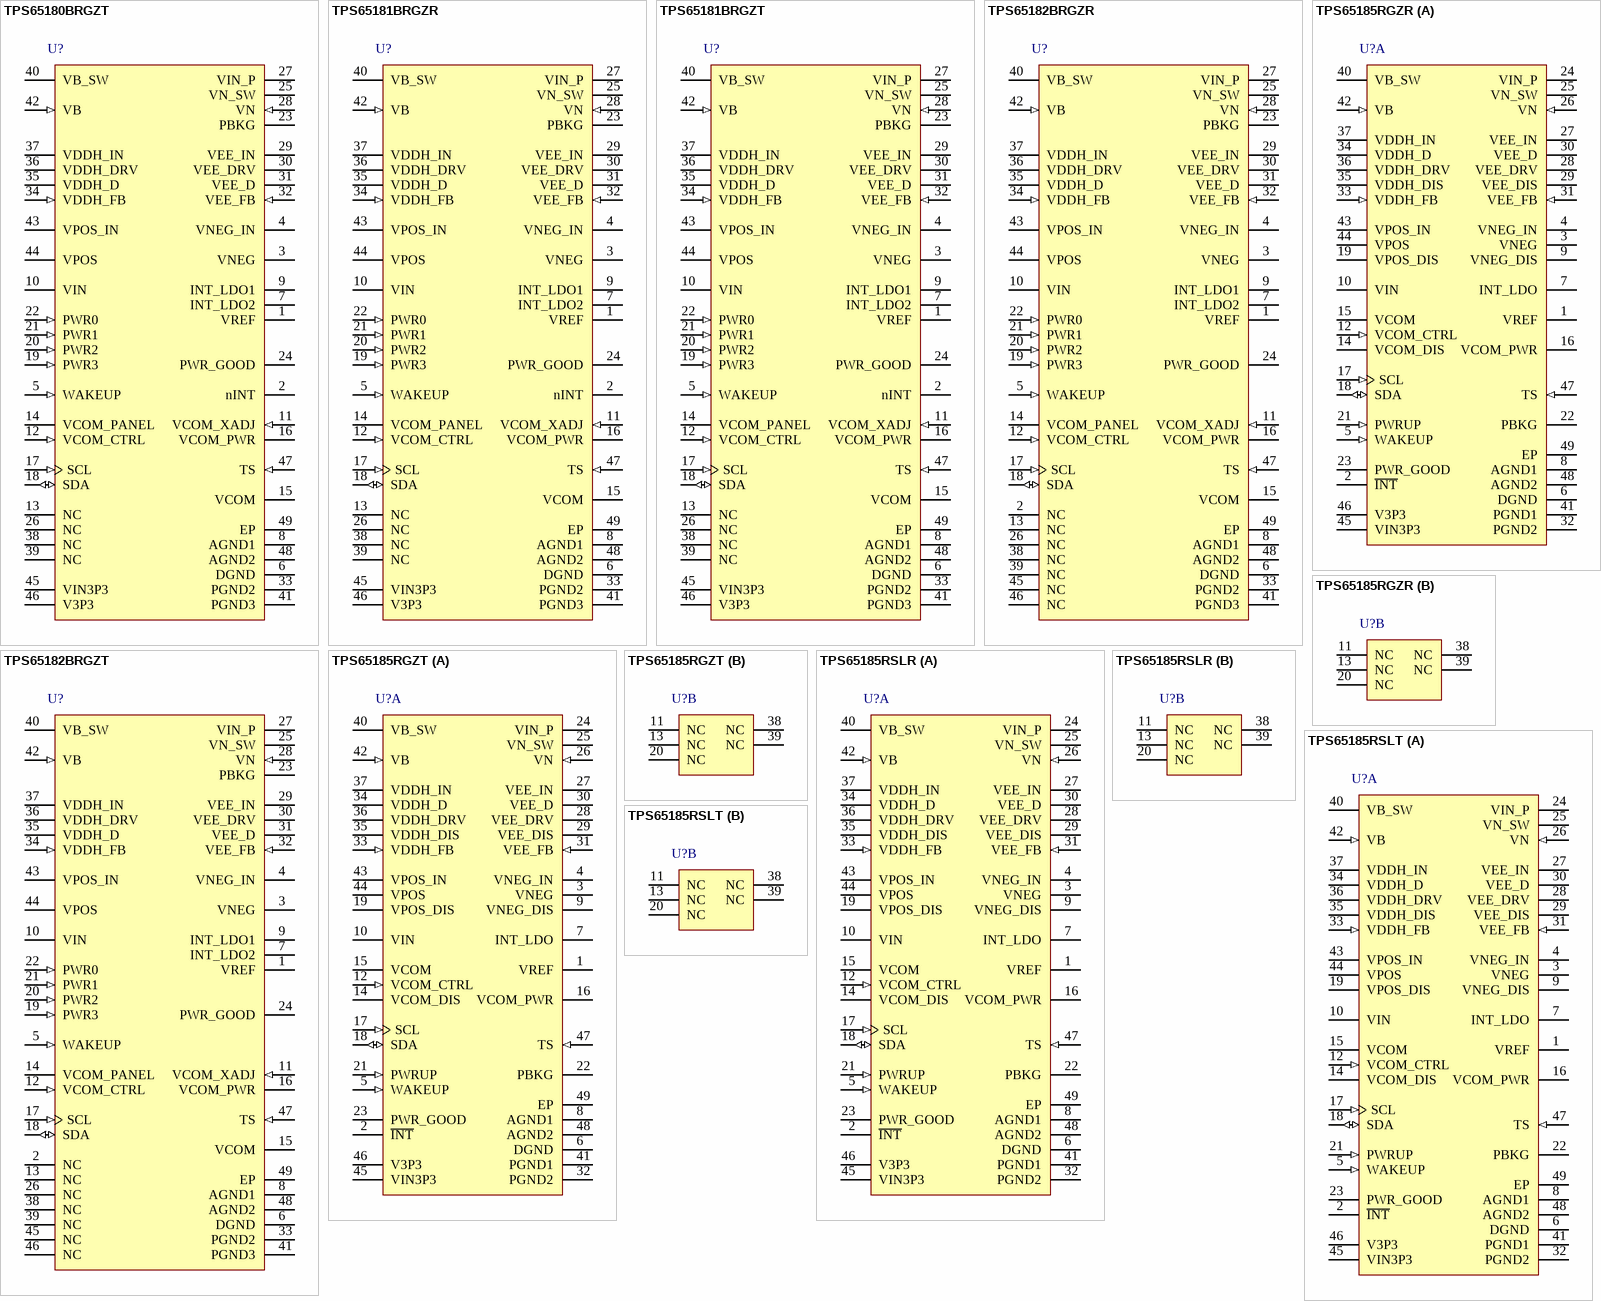
[diagram p26: symbols TPS65180BRGZT to TPS65185RSLT]

## TPS65180BRGZT
designator U?
PMIC for E Ink Vizplex Enabled Electronic Paper Display, 3 to 6 V, -10 to 85 degC, 48-pin QFN (RGZ48), Green (RoHS & no Sb/Br); Manufacturer: Texas Instruments; PartNumber: TPS65180BRGZT; Rating: Catalog; SubFamily: LCD/OLED Display Bias Solutions; Topology: Multi-Channel; Vin(Max)(V): 6; Vin(Min)(V): 3; DatasheetVersion: SLVSA76F; PackageVersion: 4204101/F; PackageReference: RGZ48-4100X4100TP; PackageDescription: 48-Pin Plastic Flat Pack, Body 7 x 7 mm, Pitch 0.5 mm; Supplier 1: Digi-Key; Supplier Part Number 1: TPS65180BRGZT-ND; Supplier 2: Mouser; Supplier Part Number 2: 595-TPS65180BRGZT; Eco-Plan: Green (RoHS & no Sb/Br); Mounting Technology: Surface Mount; Code_JEDEC: MO-220; ComponentLink1Description: Manufacturer URL; ComponentLink1URL: http://www.ti.com/; ComponentLink2Description: Datasheet; ComponentLink2URL: http://www.ti.com/general/docs/lit/getliterature.tsp?genericPartNumber=TPS65180B&fileType=pdf; ComponentLink3Description: Package Specification; ComponentLink3URL: http://www.ti.com/lit/ds/symlink/sn75dp139.pdf
footprint TI-RGZ48-4100X4100TP_V (QFN, 48-Leads, Body 7x7mm, Pitch 0.5mm, Thermal Pad 4.1x4.1mm)
pins: 1 VREF "Filter pin for 2.25-V internal reference to ADC", 2 nINT (oc) "Open drain interrupt pin (active low)", 3 VNEG (power) "Negative supply output pin for panel source drivers", 4 VNEG_IN (power) "Input pin for LDO2 (VNEG)", 5 WAKEUP (in) "Wake up pin (active high). Pull this pin high to wake up from sleep mode.", 6 DGND (power) "Digital ground", 7 INT_LDO2 "Internal supply (digital circuitry) filter pin", 8 AGND1 (power) "Analog ground for general analog circuitry", 9 INT_LDO1 "Internal supply (analog circuitry) filter pin", 10 VIN (power) "Input power supply to general circuitry", 11 VCOM_XADJ (in) "Analog input for conventional VCOM setup method. Tie this pin to ground if VCOM is set through I2 C interface", 12 VCOM_CTRL (in) "VCOM_PANEL gate driver enable (active high)", 13 NC "Not connected", 14 VCOM_PANEL (power) "Panel common-voltage output pin", 15 VCOM "Filter pin for panel common-voltage driver", 16 VCOM_PWR (power) "Internal supply input pin to VCOM buffer. Connect to the output of DCDC2.", 17 SCL (in) "Serial interface (I2C) clock input", 18 SDA (io) "Serial interface (I2C) data input/output", 19 PWR3 (in) "Enable pin for CP1 (VDDH) (active high)", 20 PWR2 (in) "Enable pin for LDO1 (VPOS) (active high)", 21 PWR1 (in) "Enable pin for CP2 (VEE) (active high)", 22 PWR0 (in) "Enable pin for LDO2 (VNEG) and VCOM (active high)", 23 PBKG (power) "Die substrate/thermal pad ,Connect to VN with short. wide trace.Wide copper trace will improve heat dissipation.PowePad must not be connected to ground", 24 PWR_GOOD (oc) "Open drain power good output pin (active low)", 25 VN_SW (power) "Inverting buck-boost converter switch out (DCDC2)", 26 NC "Not connected", 27 VIN_P (power) "Input power supply to inverting buck-boost converter (DCDC2)", 28 VN (in) "Feedback pin for inverting buck-boost converter (DCDC2)", 29 VEE_IN (power) "Input supply pin for CP1 (VEE)", 30 VEE_DRV (power) "Driver output pin for negative charge pump (CP2)", 31 VEE_D (power) "Base voltage output pin for negative charge pump (CP2)", 32 VEE_FB (in) "Feedback pin for negative charge pump (CP2)", 33 PGND2 (power) "Power ground for CP1 (VDDH) and CP2 (VEE) charge pumps", 34 VDDH_FB (in) "Feedback pin for positive charge pump (CP1)", 35 VDDH_D (power) "Base voltage output pin for positive charge pump (CP1)", 36 VDDH_DRV (power) "Driver output pin for positive charge pump (CP1)", 37 VDDH_IN (power) "Input supply pin for positive charge pump (CP1)", 38 NC "Not connected", 39 NC "Not connected", 40 VB_SW (power) "Boost converter switch out (DCDC1)", 41 PGND3 (power) "Power ground for DCDC1", 42 VB (in) "Feedback pin for boost converter (DCDC1)", 43 VPOS_IN (power) "Input pin for LDO1 (VPOS)", 44 VPOS (power) "Positive supply output pin for panel source drivers", 45 VIN3P3 (power) "Input pin to 3.3-V power switch", 46 V3P3 (power) "Output pin of 3.3-V power switch", 47 TS (in) "Thermistor input pin.Connect a 10k NTC thermistor and a 43k linearization resistor between this pin and AGND2", 48 AGND2 (power) "Reference point to external thermistor and linearization resistor", 49 EP "Exposed pad"